# EAGLE library part SX1272-LORA (library xbee)
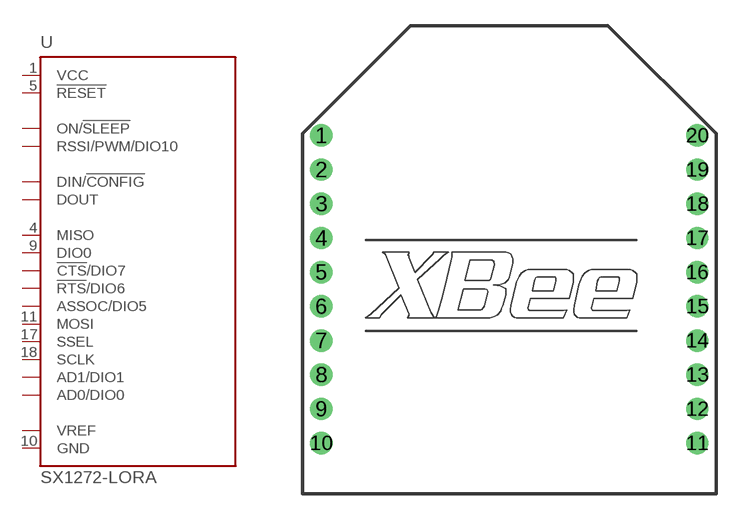
[diagram p2: symbol with the pads of XBEE; footprint XBEE]

Designator prefix -

## SX1272-LORA  [XBEE]
1  VCC  pwr
4  MISO  out
5  !RESET  in
9  DIO0
10  GND  pwr
11  MOSI  in
17  SSEL  in
18  SCLK  in

## Footprint XBEE (pad centres in mm)
XBEE Source: http://www.maxstream.net/products/xbee/datasheet_XBee_OEM_RF-Modules.pdf
drill 0.8 pad 1.27: 1 -11,9; 2 -11,7; 3 -11,5; 4 -11,3; 5 -11,1; 6 -11,-1; 7 -11,-3; 8 -11,-5; 9 -11,-7; 10 -11,-9; 11 11,-9; 12 11,-7; 13 11,-5; 14 11,-3; 15 11,-1; 16 11,1; 17 11,3; 18 11,5; 19 11,7; 20 11,9